# EAGLE library part NRF24L01 (library ee40_robot)
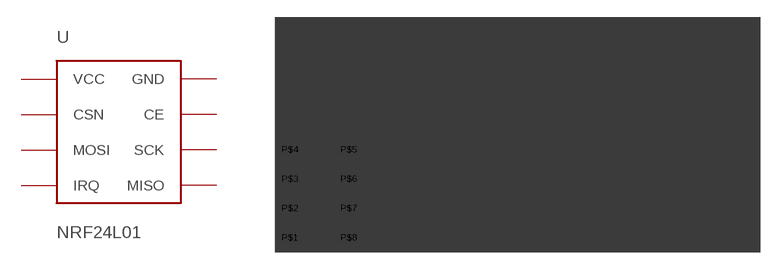
[diagram p1: symbol with the pads of NRF24L01; footprint NRF24L01]

Designator prefix -

## NRF24L01  [NRF24L01]
P$1  CE
P$2  CSN
P$3  GND
P$4  IRQ
P$5  MISO
P$6  MOSI
P$7  SCK
P$8  VCC

## Footprint NRF24L01 (pad centres in mm)
drill 0.8 long: P$1 1.27,1.27; P$2 1.27,3.81; P$3 1.27,6.35; P$4 1.27,8.89; P$5 6.35,8.89; P$6 6.35,6.35; P$7 6.35,3.81; P$8 6.35,1.27